# EAGLE library part 24LC32A-I/P (library 24LC32A-IP)
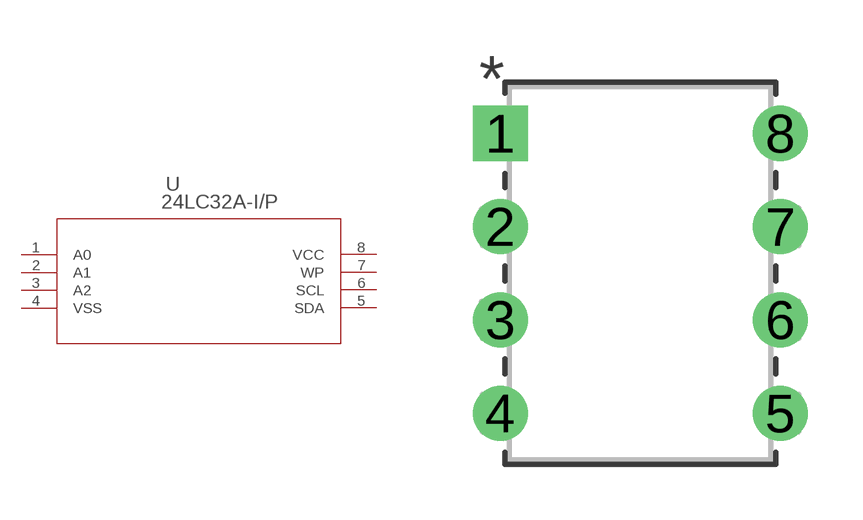
[diagram p0: symbol with the pads of PDIP8_300MC_MCH; footprint PDIP8_300MC_MCH]

Designator prefix U

## 24LC32A-I/P (COPYRIGHT: Copyright (C) 2024 Ultra Librarian. All rights reserved.; MANUFACTURER_PART_NUMBER: 24LC32A-I/P; MFR_NAME: Microchip)  [PDIP8_300MC_MCH]
1  A0  pas
2  A1  pas
3  A2  pas
4  VSS  pas
5  SDA  pas
6  SCL  pas
7  WP  pas
8  VCC  pas

## Footprint PDIP8_300MC_MCH (pad centres in mm)
drill 0.991 pad 1.499 square: 1 0,0
drill 0.991 pad 1.499: 2 0,-2.54; 3 0,-5.08; 4 0,-7.62; 5 7.62,-7.62; 6 7.62,-5.08; 7 7.62,-2.54; 8 7.62,0